# EAGLE library part MCP2562FD (library HyTechDevices)
MCP2562FD High-Speed CAN Transceiver Product Webpage <https://www.microchip.com/wwwproducts/en/MCP2562FD> Datasheet <https://ww1.microchip.com/downloads/en/DeviceDoc/20005284A.pdf>
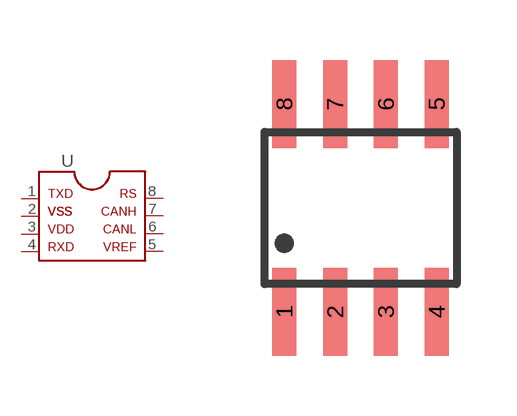
[diagram p50: symbol with the pads of SOIC-08; footprint SOIC-08]

Designator prefix -

## MCP2562FD  [SOIC-08]
1  1  pas
2  2  pas
3  3  pas
4  4  pas
5  5  pas
6  6  pas
7  7  pas
8  8  pas

## Footprint SOIC-08 (pad centres in mm)
SMALL OUTLINE INTEGRATED CIRCUIT
smd 0.6 x 2.2: 1 -1.905,-2.6; 2 -0.635,-2.6; 3 0.635,-2.6; 4 1.905,-2.6; 5 1.905,2.6; 6 0.635,2.6; 7 -0.635,2.6; 8 -1.905,2.6